# EAGLE library part RCLAMP0502A (library PROTECTION)
RClamp0502A RailClamp® Low Capacitance TVS Array
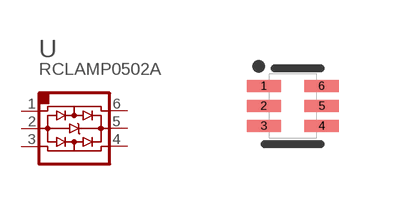
[diagram p0: symbol with the pads of SOT-666; footprint SOT-666]

Designator prefix U

## RCLAMP0502A (PARTNO: 05-100137-00)  [SOT-666]
1  1  pas
2  2  pas
3  3  pas
4  4  pas
5  5  pas
6  6  pas

## Footprint SOT-666 (pad centres in mm)
SOT-666 Drawn 09/25/13 - C. Nicks
smd 0.85 x 0.3: 1 -0.725,0.5; 2 -0.725,0; 3 -0.725,-0.5; 4 0.725,-0.5; 5 0.725,0; 6 0.725,0.5